# EAGLE library part TMUX9616 (library Public)
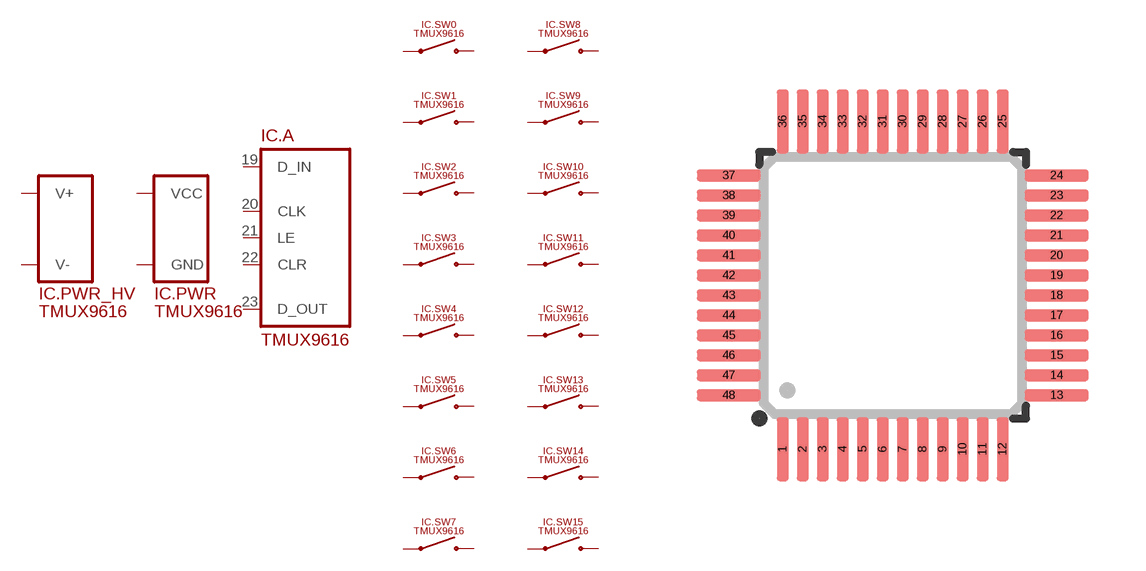
[diagram p200: symbol with the pads of LQFP48-0.5; footprint LQFP48-0.5]

Designator prefix IC; gates .PWR_HV=SUPPLY_V+/V- .PWR=SUPPLY_VCC/GND .A=TMUX9616 .SW0=SWITCH_SPST .SW1=SWITCH_SPST .SW2=SWITCH_SPST .SW3=SWITCH_SPST .SW4=SWITCH_SPST .SW5=SWITCH_SPST .SW6=SWITCH_SPST .SW7=SWITCH_SPST .SW8=SWITCH_SPST .SW9=SWITCH_SPST .SW10=SWITCH_SPST .SW11=SWITCH_SPST .SW12=SWITCH_SPST .SW13=SWITCH_SPST .SW14=SWITCH_SPST .SW15=SWITCH_SPST

## TMUX9616 (I_MAX: 85mA; V_MAX: ±120V)  [LQFP48-0.5]
3  .SW4:SW
4  .SW4:NO
5  .SW3:SW
6  .SW3:NO
7  .SW2:SW
8  .SW2:NO
9  .SW1:SW
10  .SW1:NO
11  .SW0:SW
12  .SW0:NO
13  .PWR_HV:V-
15  .PWR_HV:V+
17  .PWR:GND
18  .PWR:VCC
19  .A:D_IN
20  .A:CLK
21  .A:LE
22  .A:CLR
23  .A:D_OUT
24  .PWR:GND
25  .SW15:SW
26  .SW15:NO
27  .SW14:SW
28  .SW14:NO
29  .SW13:SW
30  .SW13:NO
31  .SW12:SW
32  .SW12:NO
33  .SW11:SW
34  .SW11:NO
37  .SW10:SW
38  .SW10:NO
39  .SW9:SW
40  .SW9:NO
41  .SW8:SW
42  .SW8:NO
43  .SW7:SW
44  .SW7:NO
45  .SW6:SW
46  .SW6:NO
47  .SW5:SW
48  .SW5:NO

## Footprint LQFP48-0.5 (pad centres in mm)
smd 0.3 x 1.6: 1 -2.75,-4.1; 2 -2.25,-4.1; 3 -1.75,-4.1; 4 -1.25,-4.1; 5 -0.75,-4.1; 6 -0.25,-4.1; 7 0.25,-4.1; 8 0.75,-4.1; 9 1.25,-4.1; 10 1.75,-4.1; 11 2.25,-4.1; 12 2.75,-4.1; 25 2.75,4.1; 26 2.25,4.1; 27 1.75,4.1; 28 1.25,4.1; 29 0.75,4.1; 30 0.25,4.1; 31 -0.25,4.1; 32 -0.75,4.1; 33 -1.25,4.1; 34 -1.75,4.1; 35 -2.25,4.1; 36 -2.75,4.1
smd 1.6 x 0.3: 13 4.1,-2.75; 14 4.1,-2.25; 15 4.1,-1.75; 16 4.1,-1.25; 17 4.1,-0.75; 18 4.1,-0.25; 19 4.1,0.25; 20 4.1,0.75; 21 4.1,1.25; 22 4.1,1.75; 23 4.1,2.25; 24 4.1,2.75; 37 -4.1,2.75; 38 -4.1,2.25; 39 -4.1,1.75; 40 -4.1,1.25; 41 -4.1,0.75; 42 -4.1,0.25; 43 -4.1,-0.25; 44 -4.1,-0.75; 45 -4.1,-1.25; 46 -4.1,-1.75; 47 -4.1,-2.25; 48 -4.1,-2.75